# Altium footprint library PCB_MOTELIGHT_RADIO_ED02R2_05022020.PcbLib: 33 footprints (part 1 of 3)
Each footprint in its own frame and in the unit in brackets; x right, y up, seen from the top. Pads: shape width x height; smd on the part's side, far side on the other; paste and mask are expansions set on the pad; w line width, h text height; cw(c..) or ccw(c..) is an arc to the next point about the centre after c.
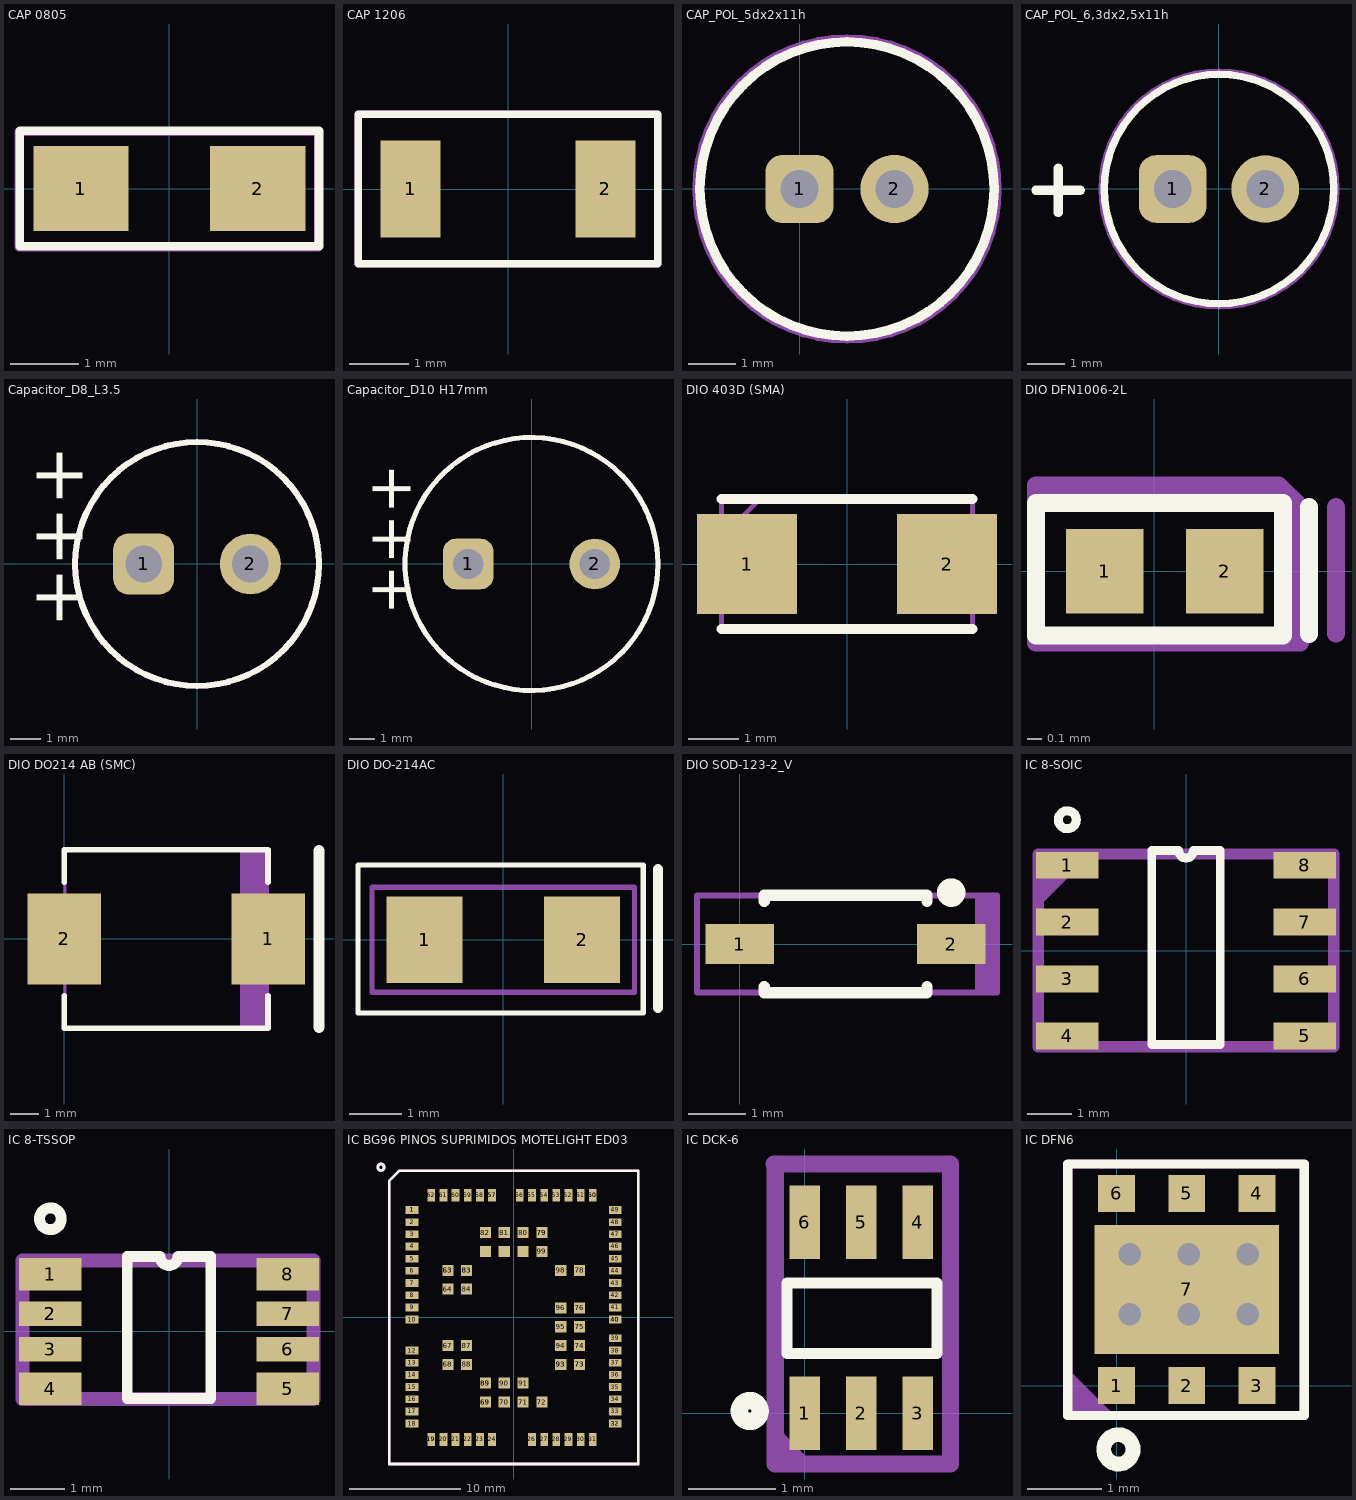
[diagram p0: the footprints below, top view; thin cyan lines are the x and y axes]

## CAP 0805 [mm] "CAPACITOR 0805"
height 1
pads (2):
  rect 1.4x1.25 smd mask+0.1: 1(-1.3,0) 2(1.3,0)
Top Overlay:
  lines w0.127: -2.2,-0.85 2.2,-0.85 2.2,0.85 -2.2,0.85 -2.2,-0.85
Top Assembly (Mech29):
  lines w0.127: -2.21,-0.864 -2.21,0.836 2.19,0.836 2.19,-0.864 -2.21,-0.864
  text "'.Designator'" at -1.524,-0.254 h1.27
3D body: height 1.45, standoff 0, extent -1.1,-0.725 -0.6,0.725
3D body: height 1.45, standoff 0, extent 0.6,-0.725 1.1,0.725
3D body: height 1.45, standoff 0, extent -0.6,-0.725 0.6,0.725

## CAP 1206 [mm] "CAPACITOR 1206"
height 1
pads (2):
  rect 1.02x1.65 smd mask+0.1: 1(-1.65,0) 2(1.65,0)
Top Overlay:
  lines w0.127: -2.54,-1.27 2.54,-1.27 2.54,1.27 -2.54,1.27 -2.54,-1.27
Top Assembly (Mech29):
  lines w0.127: -2.54,-1.27 2.54,-1.27 2.54,1.27 -2.54,1.27 -2.54,-1.27
  text "'.Designator'" at -2.311,-0.356 h1.27
3D body "CAPC3216X18M.step": height 1.8, standoff 0, extent -1.7,-0.9 1.7,0.9

## CAP_POL_5dx2x11h [mm]
pads (2):
  rrect50% 1.44x1.44 hole 0.8: 1(0,0)
  round 1.44 hole 0.8: 2(2,0)
Top Overlay:
  circle w0.2: c1,0 r3.1
Top Assembly (Mech29):
  circle w0.2: c1,0 r3.162
  text "'.Designator'" at -1.5,-0.5 h2
  text "+++" at -2.5,-1.5 h2
3D body "Cap electro 6_3x11x2_5mm.step": height 11.29, standoff -3.25, extent -2.175,-3.175 4.175,3.175

## CAP_POL_6,3dx2,5x11h [mil] "CAP ALUM POL D=6,3mm P = 2,5mm h = 11mm"
pads (2):
  rrect50% 72x72 hole 40: 1(-49.21,0)
  round 72 hole 40: 2(49.21,0)
Top Overlay:
  circle w7.87: c0,0 r122.05
  lines w10: -194.71,-1.5 -147.71,-1.5 ; -171.21,-25 -171.21,22
Top Assembly (Mech29):
  circle w7.87: c0,0 r124.5
  text "'.Designator'" at -98.43,-19.68 h78.74
  text "+++" at -137.8,-59.06 h78.74
3D body "Cap electro 6_3x11x2_5mm.step": height 444.42, standoff -128.01, extent -125.01,-125.01 125.02,125.02

## Capacitor_D8_L3.5 [mm] "capacitor diametro 8mm, lead 3,5mm, 13mm altura"
pads (2):
  rrect50% 2x2 hole 1.2: 1(-1.75,0)
  round 2 hole 1.2: 2(1.75,0)
Top Overlay:
  circle w0.2: c0,0 r4
  text "+++" at -5.842,-2.108 h3
Top Assembly (Mech29):
  circle w0.2: c0,0 r4
  text "'.Designator'" at -2.5,-0.5 h2
  text "+++" at -4.293,-0.991 h2
3D body "Cap electro 6_3x11x2_5mm.step": height 11.29, standoff -3.25, extent -3.175,-3.175 3.175,3.175

## Capacitor_D10 H17mm [mm] "capacitor diametro 10mm, lead 5mm, 17mm altura"
pads (2):
  rrect50% 2x2 hole 1.2: 1(-2.5,0)
  round 2 hole 1.2: 2(2.5,0)
Top Overlay:
  circle w0.2: c0,0 r5
  text "+++" at -6.858,-2.032 h3
Top Assembly (Mech29):
  circle w0.2: c0,0 r5
  text "'.Designator'" at -4.826,-0.254 h2
  text "+++" at -5.207,-1.27 h2
3D body "CAP_d10h17.STEP": height 17.01, standoff -3, extent -5,-5 5.01,5

## DIO 403D (SMA) [mm]
pads (2):
  rect 2x2 smd mask+0.025: 1(-2,0) 2(2,0)
Top Overlay:
  lines w0.2: -2.515,1.295 2.51,1.302 ; -2.51,-1.302 2.51,-1.302
Top Assembly (Mech29):
  lines w0.1: -2.51,0.528 -1.735,1.302 ; -2.51,-1.302 2.51,-1.302 2.51,1.302 -2.51,1.302 -2.51,-1.302
  text "'.Designator'" at -1.773,-0.432 h1.27
3D body "1SMA5918BT3G.stp": height 2.2, standoff 0, extent -2.51,-1.302 2.51,1.303

## DIO DFN1006-2L [mm] "DIODE SMAL 0402"
pads (2):
  rect 0.55x0.6 smd mask+0.1: 1(-0.35,0) 2(0.5,0)
Top Overlay:
  lines w0.127: 1.1,-0.446 1.1,0.456 ; -0.838,-0.457 -0.838,0.483 0.914,0.483 0.914,-0.457 -0.838,-0.457
Top Assembly (Mech29):
  lines w0.127: 1.291,-0.444 1.291,0.456 ; -0.838,-0.508 -0.838,0.61 0.884,0.61 0.923,0.571 1,0.494 1.038,0.456 1.038,-0.508 -0.838,-0.508
  text "'.Designator'" at -1.016,-0.33 h1.27
3D body "RESISTOR 0402.step": height 0.36, standoff 0.01, extent -0.449,-0.275 0.551,0.225
3D body: height 6, standoff 1, extent 0.635,-1.27 0.635,-1.27

## DIO DO214 AB (SMC) [mm]
pads (2):
  rect 2.6x3.2 smd mask+0.025: 1(7.2,0) 2(0,0)
Top Overlay:
  lines w0.2: 0,-2 0,-3.15 7.2,-3.15 7.2,-2 ; 0,2 0,3.15 7.2,3.15 7.2,2
  lines w0.4: 9,-3.125 9,3.125
Top Assembly (Mech29):
  rectangle: 6.213,-3.125 7.175,3.125
  lines w0.1: 0.025,-3.125 7.175,-3.125 7.175,3.125 0.025,3.125 0.025,-3.125
  text "'.Designator'" at 0.513,-0.432 h1.27
3D body "DIOM6959X26L.step": height 2.65, standoff 0, extent -0.195,-3.125 7.395,3.125

## DIO DO-214AC [mm]
height 1
pads (2):
  rect 1.45x1.65 smd: 1(-1.5,0) 2(1.5,0)
Top Overlay:
  lines w0.102: -2.769,-1.397 2.667,-1.397 2.667,1.422 -2.769,1.422 -2.769,-1.397
  lines w0.2: 2.946,-1.295 2.946,1.346
Top Assembly (Mech29):
  lines w0.1: -2.5,-1 2.5,-1 2.5,1 -2.5,1 -2.5,-1
3D body "DO-214AC SMA.step": height 2.42, standoff 0.01, extent -2.625,-1.27 2.575,1.33

## DIO SOD-123-2_V [mm]
pads (2):
  rect 1.2x0.7 smd: 1(0,0) 2(3.7,0)
Top Overlay:
  circle w0.25: c3.7,0.9 r0.125
  lines w0.2: 0.425,-0.75 0.425,-0.85 3.275,-0.85 3.275,-0.75 ; 0.425,0.75 0.425,0.85 3.275,0.85 3.275,0.75
Top Assembly (Mech29):
  rectangle: 4.111,-0.85 4.495,0.85
  lines w0.1: -0.75,-0.85 -0.75,0.85 4.5,0.85 4.5,-0.85 -0.75,-0.85
  text "'.Designator'" at -0.5,-0.25 h1.27
3D body: height 1.45, standoff 0, extent 0.425,-0.85 3.275,0.85

## IC 8-SOIC [mm]
height 1.25
pads (8):
  rect 1.4x0.6 smd paste+0 mask+0.05: 1(-2.65,1.905) 2(-2.65,0.635) 3(-2.65,-0.635) 4(-2.65,-1.905) 5(2.65,-1.905) 6(2.65,-0.635) 7(2.65,0.635) 8(2.65,1.905)
Top Overlay:
  circle w0.2: c-2.65,2.921 r0.2
  lines w0.2: -0.765,-2.095 -0.765,2.23 -0.162,2.23 ccw(c0,2.23) 0.162,2.23 0.765,2.23 0.765,-2.095 -0.765,-2.095
Top Assembly (Mech29):
  region: -3.3,2.155 -2.118,2.155 -3.3,0.973
  lines w0.254: -3.3,-2.145 -3.3,2.155 3.3,2.155 3.3,-2.145 -3.3,-2.145
  text "'.Designator'" at -2.904,-0.473 h1.52
3D body "SOIC8.STEP": height 1.76, standoff 0, extent -3.099,-2.502 3.099,2.502

## IC 8-TSSOP [mm]
height 3
pads (8):
  rect 1.15x0.6 smd paste+0 mask+0.05: 1(-2.175,1.05) 4(-2.175,-1.05) 5(2.175,-1.05) 8(2.175,1.05)
  rect 1.15x0.45 smd paste+0 mask+0.05: 2(-2.175,0.325) 3(-2.175,-0.325) 6(2.175,-0.325) 7(2.175,0.325)
Top Overlay:
  circle w0.2: c-2.175,2.066 r0.2
  lines w0.2: -0.765,-1.225 -0.765,1.375 -0.162,1.375 ccw(c0,1.375) 0.162,1.375 0.765,1.375 0.765,-1.225 -0.765,-1.225
Top Assembly (Mech29):
  region: -1.5,2
  region: -2.683,1.304 -2.683,0.687 -2.679,0.687 -2.062,1.304
  lines w0.254: -2.683,-1.236 -2.683,1.304 2.651,1.304 2.651,-1.236 -2.683,-1.236
  text "'.Designator'" at -2.429,-0.728 h1.52

## IC BG96 PINOS SUPRIMIDOS MOTELIGHT ED03 [mm]
pads (106):
  rect 1.15x0.7 smd mask+0.025: 1(-9.18,9.7) 1(-9.18,9.7) 2(-9.18,8.6) 3(-9.18,7.5) 4(-9.18,6.4) 5(-9.18,5.3) 6(-9.18,4.2) 7(-9.18,3.1) 8(-9.18,2) 9(-9.18,0.9) 10(-9.18,-0.2) 12(-9.18,-3) 13(-9.18,-4.1) 14(-9.18,-5.2) 15(-9.18,-6.3) 16(-9.18,-7.4) 17(-9.18,-8.5) 18(-9.18,-9.6) 32(9.18,-9.6) 32(9.18,-9.6) 33(9.18,-8.5) 34(9.18,-7.4) 35(9.18,-6.3) 36(9.18,-5.2) 37(9.18,-4.1) 38(9.18,-3) 39(9.18,-1.9) 40(9.18,-0.2) 40(9.18,-0.2) 41(9.18,0.9) 42(9.18,2) 43(9.18,3.1) 44(9.18,4.2) 45(9.18,5.3) 46(9.18,6.4) 47(9.18,7.5) 48(9.18,8.6) 49(9.18,9.7)
  rect 0.7x1.15 smd mask+0.025: 19(-7.45,-11.03) 19(-7.45,-11.03) 20(-6.35,-11.03) 21(-5.25,-11.03) 22(-4.15,-11.03) 23(-3.05,-11.03) 24(-1.95,-11.03) 26(1.65,-11.03) 27(2.75,-11.03) 28(3.85,-11.03) 29(4.95,-11.03) 30(6.05,-11.03) 31(7.15,-11.03) 50(7.15,11.03) 50(7.15,11.03) 51(6.05,11.03) 52(4.95,11.03) 53(3.85,11.03) 54(2.75,11.03) 55(1.65,11.03) 56(0.55,11.03) 57(-1.95,11.03) 57(-1.95,11.03) 58(-3.05,11.03) 59(-4.15,11.03) 60(-5.25,11.03) 61(-6.35,11.03) 62(-7.45,11.03)
  rect 1x1 smd mask+0.025: 63(-5.95,4.25) 63(-5.95,4.25) 64(-5.95,2.55) 67(-5.95,-2.55) 68(-5.95,-4.25) 69(-2.55,-7.65) 69(-2.55,-7.65) 70(-0.85,-7.65) 71(0.85,-7.65) 72(2.55,-7.65) 73(5.95,-4.25) 73(5.95,-4.25) 74(5.95,-2.55) 75(5.95,-0.85) 76(5.95,0.85) 78(5.95,4.25) 79(2.55,7.65) 79(2.55,7.65) 80(0.85,7.65) 81(-0.85,7.65) 82(-2.55,7.65) 83(-4.25,4.25) 83(-4.25,4.25) 84(-4.25,2.55) 87(-4.25,-2.55) 88(-4.25,-4.25) 89(-2.55,-5.95) 89(-2.55,-5.95) 90(-0.85,-5.95) 91(0.85,-5.95) 93(4.25,-4.25) 93(4.25,-4.25) 94(4.25,-2.55) 95(4.25,-0.85) 96(4.25,0.85) 98(4.25,4.25) 99(2.55,5.95) 100(0.85,5.95) 101(-0.85,5.95) 102(-2.55,5.95)
Top Overlay:
  circle w0.254: c-11.989,13.564 r0.29
  lines w0.254: -11.25,11.151 -11.25,11.169 ; -11.25,-13.25 11.25,-13.25 11.25,13.25 -10.33,13.25 -11.25,12.33 -11.25,-13.25
Top Assembly (Mech29):
  circle w0.254: c-11.989,13.564 r0.29
  lines w0.254: -11.25,11.151 -11.25,11.169 ; -11.25,-13.25 11.25,-13.25 11.25,13.25 -10.33,13.25 -11.25,12.33 -11.25,-13.25
  text "'.Designator'" at -7.137,-0.61 h3
3D body: height 2.3, standoff 0, extent -11.252,-13.259 11.227,13.233

## IC DCK-6 [mm] "DCK-6"
pads (6):
  rect 0.35x0.85 smd paste+0 mask+0.04: 1(0,0) 2(0.65,0) 3(1.3,0) 4(1.3,2.2) 5(0.65,2.2) 6(0,2.2)
Top Overlay:
  circle w0.2: c-0.635,0.025 r0.12
  lines w0.127: -0.203,0.686 1.524,0.686 1.524,1.499 -0.203,1.499 -0.203,0.686
Top Assembly (Mech29):
  region: -0.343,-0.584 0.101,-0.584 -0.343,-0.14
  lines w0.2: -0.356,2.87 -0.33,2.87 1.676,2.87 1.676,-0.584 -0.343,-0.584 -0.343,2.87
  text "'.Designator'" at -0.503,0.584 h1.27

## IC DFN6 [mm]
pads (7):
  rect 0.5x0.5 smd paste+0 mask+0.025: 1(0,0) 2(0.95,0) 3(1.9,0) 4(1.9,2.6) 5(0.95,2.6) 6(0,2.6)
  rect 2.5x1.75 smd paste+0 mask+0.025: 7(0.95,1.3)
via 1.778,0.965 diameter 0.61 hole 0.305
via 1.778,1.778 diameter 0.61 hole 0.305
via 0.978,1.778 diameter 0.61 hole 0.305
via 0.978,0.965 diameter 0.61 hole 0.305
via 0.178,0.965 diameter 0.61 hole 0.305
via 0.178,1.778 diameter 0.61 hole 0.305
Top Overlay:
  circle w0.2: c0.025,-0.864 r0.198
  lines w0.127: -0.66,-0.406 2.54,-0.406 2.54,2.997 -0.66,2.997 -0.66,-0.406
Top Assembly (Mech29):
  region: -0.66,0.229 -0.025,-0.406 -0.66,-0.406
  lines w0.127: -0.66,-0.406 2.54,-0.406 2.54,2.997 -0.66,2.997 -0.66,-0.406
  text "'.Designator'" at -0.503,1.092 h1.27
3D body "DFN6-3x3x0_80.step": height 0.81, standoff 0.01, extent -0.55,-0.2 2.45,2.8